# EAGLE library part USB_MICRO-B_ (library Chromation)
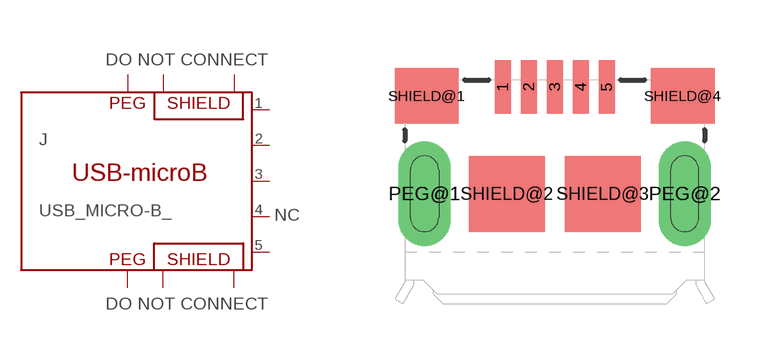
[diagram p16: symbol with the pads of TE_2013499-1; footprint TE_2013499-1]

Designator prefix J

## USB_MICRO-B_TE_2013499-1  [TE_2013499-1]
1  VBUS
2  D-
3  D+
4  NC  nc
5  GND
PEG@1  PEG  nc
PEG@2  PEG  nc
SHIELD@1  SHIELD  nc
SHIELD@2  SHIELD  nc
SHIELD@3  SHIELD  nc
SHIELD@4  SHIELD  nc

## Footprint TE_2013499-1 (pad centres in mm)
smd 0.4 x 1.35: 1 -1.3,4.125; 2 -0.65,4.125; 3 0,4.125; 4 0.65,4.125; 5 1.3,4.125
drill 0.711 pad 1.311 long: PEG@1 -3.256,1.45; PEG@2 3.256,1.45
smd 1.6 x 1.4: SHIELD@1 -3.2,3.9; SHIELD@4 3.2,3.9
smd 1.9 x 1.9: SHIELD@2 -1.2,1.45; SHIELD@3 1.2,1.45